# Altium schematic symbol library SCH - CONNECTORS - 20 PIN.SCHLIB: 1 symbol
Pins are listed as number, name and electrical type; pins without a type are passive.

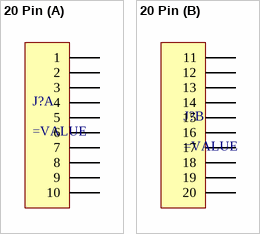
[diagram p0: symbol 20 Pin]

## 20 Pin
designator J?
part A pins: 1, 2, 3, 4, 5, 6, 7, 8, 9, 10
part B pins: 11, 12, 13, 14, 15, 16, 17, 18, 19, 20